# EAGLE library part 535512-24 (library con-tyco-modu)
RECEPTACAL
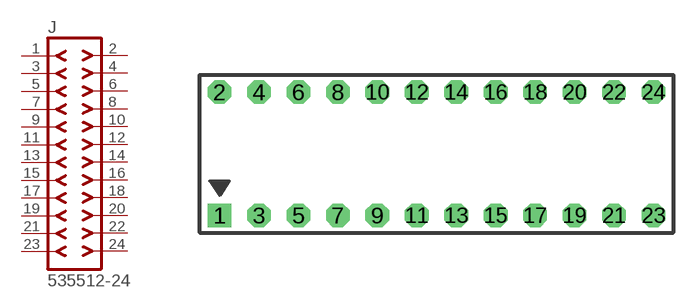
[diagram p29: symbol with the pads of 535512-24; footprint 535512-24]

Designator prefix J

## 535512-24  [535512-24]
1  1  pas
2  2  pas
3  3  pas
4  4  pas
5  5  pas
6  6  pas
7  7  pas
8  8  pas
9  9  pas
10  10  pas
11  11  pas
12  12  pas
13  13  pas
14  14  pas
15  15  pas
16  16  pas
17  17  pas
18  18  pas
19  19  pas
20  20  pas
21  21  pas
22  22  pas
23  23  pas
24  24  pas

## Footprint 535512-24 (pad centres in mm)
AMPMODU - 535512 Series
drill 1.016 square: 1 -13.97,0
drill 1.016 octagon: 2 -13.97,7.938; 3 -11.43,0; 4 -11.43,7.938; 5 -8.89,0; 6 -8.89,7.938; 7 -6.35,0; 8 -6.35,7.938; 9 -3.81,0; 10 -3.81,7.938; 11 -1.27,0; 12 -1.27,7.938; 13 1.27,0; 14 1.27,7.938; 15 3.81,0; 16 3.81,7.938; 17 6.35,0; 18 6.35,7.938; 19 8.89,0; 20 8.89,7.938; 21 11.43,0; 22 11.43,7.938; 23 13.97,0; 24 13.97,7.938